# EAGLE library part A4988-BOARD (library adapterboards)
Adapterplatine fuer den Schrittmotor Controller A4988
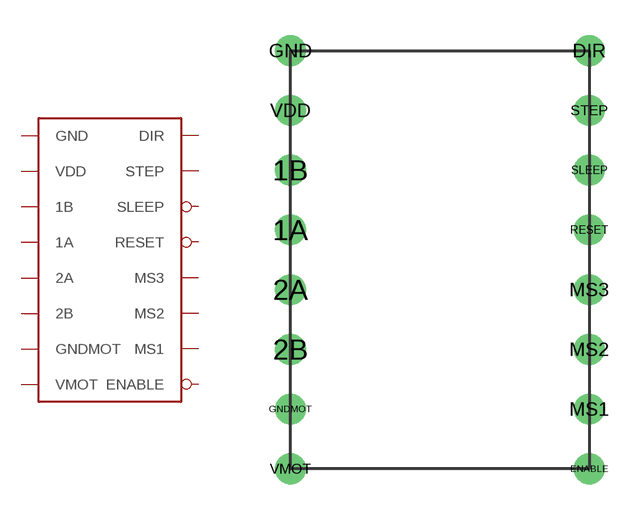
[diagram p0: symbol with the pads of ADAPT-A4988; footprint ADAPT-A4988]

Designator prefix -

## A4988-BOARD  [ADAPT-A4988]
1A  1A
1B  1B
2A  2A
2B  2B
DIR  DIR
ENABLE  ENABLE
GND  GND
GNDMOT  GNDMOT
MS1  MS1
MS2  MS2
MS3  MS3
RESET  RESET
SLEEP  SLEEP
STEP  STEP
VDD  VDD
VMOT  VMOT

## Footprint ADAPT-A4988 (pad centres in mm)
drill 0.8: 1A 0,-7.62; 1B 0,-5.08; 2A 0,-10.16; 2B 0,-12.7; DIR 12.7,0; ENABLE 12.7,-17.78; GND 0,0; GNDMOT 0,-15.24; MS1 12.7,-15.24; MS2 12.7,-12.7; MS3 12.7,-10.16; RESET 12.7,-7.62; SLEEP 12.7,-5.08; STEP 12.7,-2.54; VDD 0,-2.54; VMOT 0,-17.78